# EAGLE library part MH4-2 (library Domino)
2x4 Pin Male Header
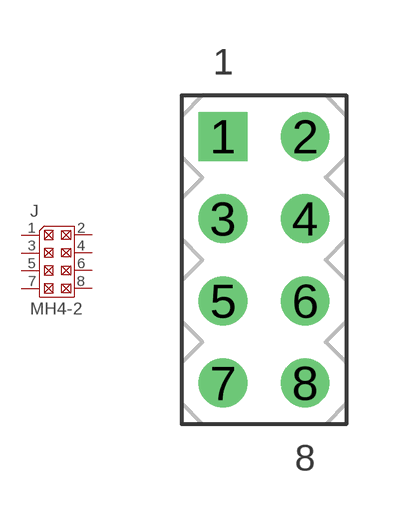
[diagram p38: symbol with the pads of MH4-2-0.1; footprint MH4-2-0.1]

Designator prefix J

## MH4-2  [MH4-2-0.1]
1  1  pas
2  2  pas
3  3  pas
4  4  pas
5  5  pas
6  6  pas
7  7  pas
8  8  pas

## Footprint MH4-2-0.1 (pad centres in mm)
2x4 Pin Male Header, 0.1" Pitch
drill 1 square: 1 -1.27,3.81
drill 1: 2 1.27,3.81; 3 -1.27,1.27; 4 1.27,1.27; 5 -1.27,-1.27; 6 1.27,-1.27; 7 -1.27,-3.81; 8 1.27,-3.81